# Altium integrated library 505020-0692.IntLib: 1 symbol
Pins are listed as number, name and electrical type; pins without a type are passive.

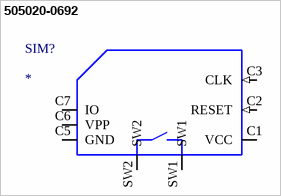
[diagram p0: symbol 505020-0692]

## 505020-0692
designator SIM?
6 Position Card Connector Micro SIM Surface Mount, Right Angle Gold; MF: Molex; MP: 5050200692; Price: None; SnapEDA_Link: https://www.snapeda.com/parts/5050200692/Molex/view-part/470352/?ref=snap; Check_prices: https://www.snapeda.com/parts/5050200692/Molex/view-part/470352/?ref=eda; Purchase-URL: https://pricing.snapeda.com/search/part/5050200692/?ref=eda; Availability: Warning; Package: None; Value: *
footprint 505020-0692
pins: C1 VCC (power), C2 RESET (in), C3 CLK (in), C5 GND (power), C6 VPP (power), C7 IO (io), SW1 (io), SW2 (io)